# EAGLE library part ISP-SMD (library devkrzyzanowskiLib)
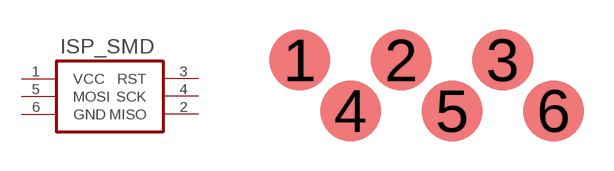
[diagram p2: symbol with the pads of ISP-SMD; footprint ISP-SMD]

Designator prefix -

## ISP-SMD  [ISP-SMD]
1  VCC
2  MISO
3  RST
4  SCK
5  MOSI
6  GND

## Footprint ISP-SMD (pad centres in mm)
smd 1.524 x 1.524: 1 -2.54,2.54; 2 0,2.54; 3 2.54,2.54; 4 -1.27,1.27; 5 1.27,1.27; 6 3.81,1.27